# Altium integrated library Renesas ASSP.IntLib: 185 symbols (part 1 of 6)
Pins are listed as number, name and electrical type; pins without a type are passive.

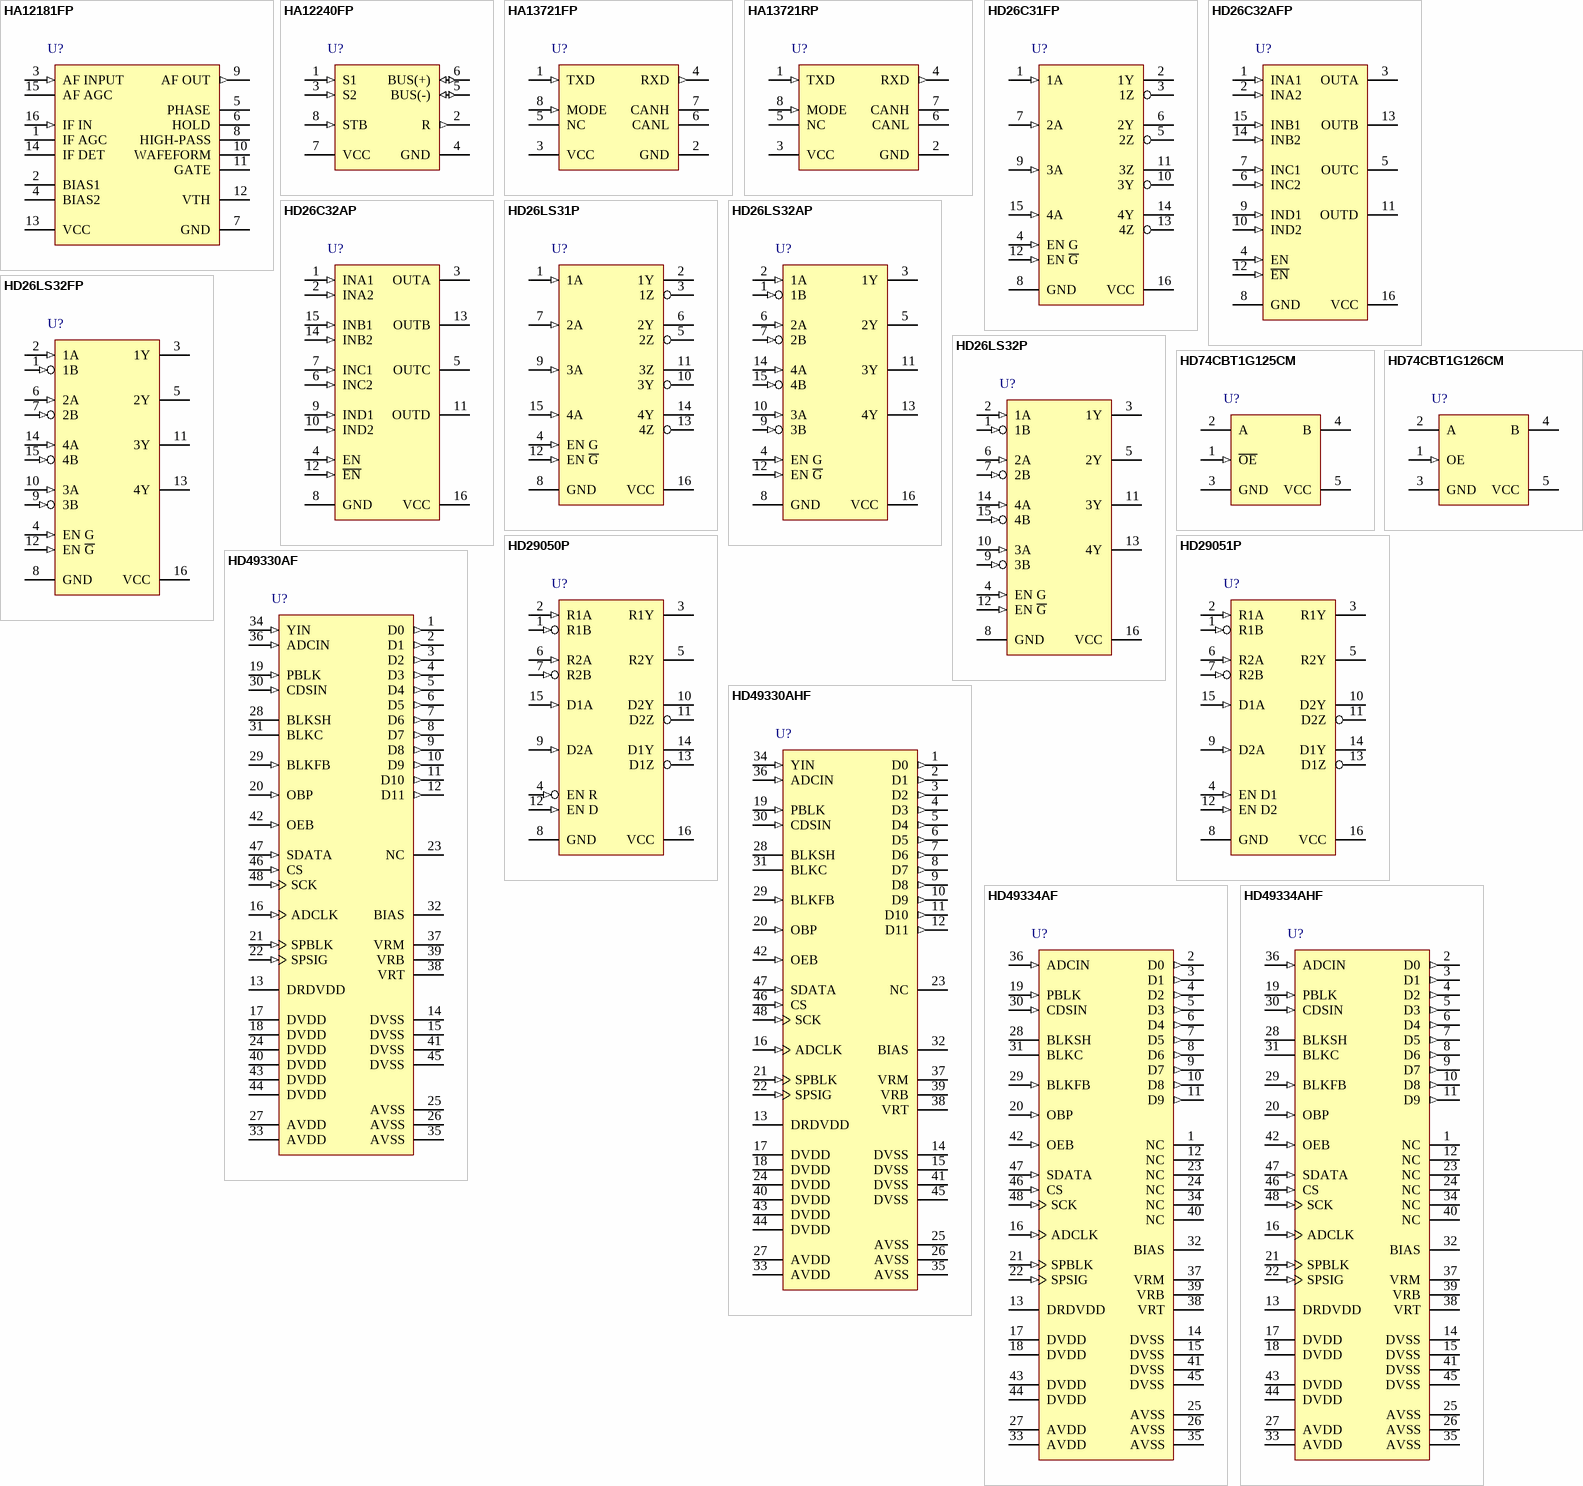
[diagram p0: symbols HA12181FP to HD49334AHF]

## HA12181FP
designator U?
AM noise canceller, 16-Pin SOP; Published: 5-Feb-2010; DatasheetVersion: Rev.2.00, Jun-2005; PackageVersion: Sep-2005; PackageReference: PRSP0016DH-A; Publisher: Altium Limited; PackageDescription: 16-Pin Plastic Small Outline Package 1.27 mm Pitch; Code_JEITA: P-SOP16-5.5x10.06-1.27; ComponentLink1Description: Manufacturer Link; ComponentLink1URL: http://sg.renesas.com/fmwk.jsp?cnt=assp_category_landing.jsp&fp=/products/assp; ComponentLink2Description: Datasheet; ComponentLink2URL: http://documentation.renesas.com/eng/products/assp/rej03f0130_ha12181fp.pdf; ComponentLink3Description: Packaging Specification; ComponentLink3URL: http://sg.renesas.com/media/products/common_info/package/pdf/ic/code/prsp0016dh_a.pdf
footprint PRSP0016DH-A_N (SOP, 16-Leads, Body 10.06x5.5mm, Pitch 1.27mm, IPC Medium Density)
footprint PRSP0016DH-A_L (SOP, 16-Leads, Body 10.06x5.5mm, Pitch 1.27mm, IPC High Density)
footprint PRSP0016DH-A_M (SOP, 16-Leads, Body 10.06x5.5mm, Pitch 1.27mm, IPC Low Density)
pins: 1 IF AGC, 2 BIAS1, 3 AF INPUT (in), 4 BIAS2, 5 PHASE, 6 HOLD, 7 GND (power), 8 HIGH-PASS, 9 AF OUT (out), 10 WAFEFORM, 11 GATE, 12 VTH, 13 VCC (power), 14 IF DET, 15 AF AGC, 16 IF IN (in)

## HA12240FP
designator U?
Driver/receiver for bus interface, 8-Pin SOP; Published: 5-Feb-2010; DatasheetVersion: Rev.1.0, Dec-2003; PackageVersion: Sep-2005; PackageReference: PRSP0008DE-B; Publisher: Altium Limited; PackageDescription: 8-Pin Plastic Small Outline Package 1.27 mm Pitch; Code_JEITA: P-SOP8-4.4x4.85-1.27; ComponentLink1Description: Manufacturer Link; ComponentLink1URL: http://sg.renesas.com/fmwk.jsp?cnt=assp_category_landing.jsp&fp=/products/assp; ComponentLink2Description: Datasheet; ComponentLink2URL: http://documentation.renesas.com/eng/products/assp/rej03f0095_ha12240fp.pdf; ComponentLink3Description: Packaging Specification; ComponentLink3URL: http://sg.renesas.com/media/products/common_info/package/pdf/ic/code/prsp0008de_b.pdf
footprint PRSP0008DE-B_N (SOP, 8-Leads, Body 4.85x4.4mm, Pitch 1.27mm, IPC Medium Density)
footprint PRSP0008DE-B_L (SOP, 8-Leads, Body 4.85x4.4mm, Pitch 1.27mm, IPC High Density)
footprint PRSP0008DE-B_M (SOP, 8-Leads, Body 4.85x4.4mm, Pitch 1.27mm, IPC Low Density)
pins: 1 S1 (in), 2 R (out), 3 S2 (in), 4 GND (power), 5 BUS(-) (io), 6 BUS(+) (io), 7 VCC (power), 8 STB (in)

## HA13721FP
designator U?
CAN Transceiver, 8-Pin SOP; Published: 5-Feb-2010; DatasheetVersion: Rev.1.00, Jul-2004; PackageVersion: Sep-2005; PackageReference: PRSP0008DE-A; Publisher: Altium Limited; PackageDescription: 8-Pin Plastic Small Outline Package 1.27 mm Pitch; Code_JEITA: P-SOP8-4.4x4.85-1.27; ComponentLink1Description: Manufacturer Link; ComponentLink1URL: http://sg.renesas.com/fmwk.jsp?cnt=assp_category_landing.jsp&fp=/products/assp; ComponentLink2Description: Datasheet; ComponentLink2URL: http://documentation.renesas.com/eng/products/assp/rej03f0116_ha13721rp_fp.pdf; ComponentLink3Description: Packaging Specification; ComponentLink3URL: http://sg.renesas.com/media/products/common_info/package/pdf/ic/code/prsp0008de_a.pdf
footprint PRSP0008DE-A_N (SOP, 8-Leads, Body 4.85x4.4mm, Pitch 1.27mm, IPC Medium Density)
footprint PRSP0008DE-A_L (SOP, 8-Leads, Body 4.85x4.4mm, Pitch 1.27mm, IPC High Density)
footprint PRSP0008DE-A_M (SOP, 8-Leads, Body 4.85x4.4mm, Pitch 1.27mm, IPC Low Density)
pins: 1 TXD (in), 2 GND (power), 3 VCC (power), 4 RXD (out), 5 NC, 6 CANL, 7 CANH, 8 MODE (in)

## HA13721RP
designator U?
CAN Transceiver, 8-Pin SOIC; Published: 5-Feb-2010; DatasheetVersion: Rev.1.00, Jul-2004; PackageVersion: Sep-2005; PackageReference: PRSP0008DD-B; Publisher: Altium Limited; PackageDescription: 8-Pin Plastic Small Outline Integrated Circuit 1.27 mm Pitch; Code_JEITA: P-SOP8-3.95x4.9-1.27; Code_IPC: SOIC127P600-8; ComponentLink1Description: Manufacturer Link; ComponentLink1URL: http://sg.renesas.com/fmwk.jsp?cnt=assp_category_landing.jsp&fp=/products/assp; ComponentLink2Description: Datasheet; ComponentLink2URL: http://documentation.renesas.com/eng/products/assp/rej03f0116_ha13721rp_fp.pdf; ComponentLink3Description: Packaging Specification; ComponentLink3URL: http://sg.renesas.com/media/products/common_info/package/pdf/ic/code/prsp0008dd_b.pdf
footprint PRSP0008DD-B_N (SOIC, 8-Leads, Body 4.9x3.95mm, Pitch 1.27mm, IPC Medium Density)
footprint PRSP0008DD-B_L (SOIC, 8-Leads, Body 4.9x3.95mm, Pitch 1.27mm, IPC High Density)
footprint PRSP0008DD-B_M (SOIC, 8-Leads, Body 4.9x3.95mm, Pitch 1.27mm, IPC Low Density)
pins: 1 TXD (in), 2 GND (power), 3 VCC (power), 4 RXD (out), 5 NC, 6 CANL, 7 CANH, 8 MODE (in)

## HD26C31FP
designator U?
Quad Differential Line Drivers with 3-State Outputs, 16-Pin SOP; Published: 5-Feb-2010; DatasheetVersion: Rev.2.00, Jul-2004; PackageVersion: Sep-2005; PackageReference: PRSP0016DH-B; Publisher: Altium Limited; PackageDescription: 16-Pin Plastic Small Outline Package 1.27 mm Pitch; Code_JEITA: P-SOP16-5.5x10.06-1.27; ComponentLink1Description: Manufacturer Link; ComponentLink1URL: http://sg.renesas.com/fmwk.jsp?cnt=assp_category_landing.jsp&fp=/products/assp; ComponentLink2Description: Datasheet; ComponentLink2URL: http://documentation.renesas.com/eng/products/logic/rej03d0292_hd26c31.pdf; ComponentLink3Description: Packaging Specification; ComponentLink3URL: http://sg.renesas.com/media/products/common_info/package/pdf/ic/code/prsp0016dh_b.pdf
footprint PRSP0016DH-B_N (SOP, 16-Leads, Body 10.06x5.5mm, Pitch 1.27mm, IPC Medium Density)
footprint PRSP0016DH-B_L (SOP, 16-Leads, Body 10.06x5.5mm, Pitch 1.27mm, IPC High Density)
footprint PRSP0016DH-B_M (SOP, 16-Leads, Body 10.06x5.5mm, Pitch 1.27mm, IPC Low Density)
pins: 1 1A (in), 2 1Y (hiz), 3 1Z (hiz), 4 EN G (in), 5 2Z (hiz), 6 2Y (hiz), 7 2A (in), 8 GND (power), 9 3A (in), 10 3Y (hiz), 11 3Z (hiz), 12 EN ~{G} (in), 13 4Z (hiz), 14 4Y (hiz), 15 4A (in), 16 VCC (power)

## HD26C32AFP
designator U?
Quad Differential Line Drivers with 3-State Outputs, 16-Pin SOP; Published: 5-Feb-2010; DatasheetVersion: Rev.2.00, Jul-2004; PackageVersion: Sep-2005; PackageReference: PRSP0016DH-B; Publisher: Altium Limited; PackageDescription: 16-Pin Plastic Small Outline Package 1.27 mm Pitch; Code_JEITA: P-SOP16-5.5x10.06-1.27; ComponentLink1Description: Manufacturer Link; ComponentLink1URL: http://sg.renesas.com/fmwk.jsp?cnt=assp_category_landing.jsp&fp=/products/assp; ComponentLink2Description: Datasheet; ComponentLink2URL: http://documentation.renesas.com/eng/products/logic/rej03d0293_hd26c32a.pdf; ComponentLink3Description: Packaging Specification; ComponentLink3URL: http://sg.renesas.com/media/products/common_info/package/pdf/ic/code/prsp0016dh_b.pdf
footprint PRSP0016DH-B_N (SOP, 16-Leads, Body 10.06x5.5mm, Pitch 1.27mm, IPC Medium Density)
footprint PRSP0016DH-B_L (SOP, 16-Leads, Body 10.06x5.5mm, Pitch 1.27mm, IPC High Density)
footprint PRSP0016DH-B_M (SOP, 16-Leads, Body 10.06x5.5mm, Pitch 1.27mm, IPC Low Density)
pins: 1 INA1 (in), 2 INA2 (in), 3 OUTA (hiz), 4 EN (in), 5 OUTC (hiz), 6 INC2 (in), 7 INC1 (in), 8 GND (power), 9 IND1 (in), 10 IND2 (in), 11 OUTD (hiz), 12 ~{EN} (in), 13 OUTB (hiz), 14 INB2 (in), 15 INB1 (in), 16 VCC (power)

## HD26C32AP
designator U?
Quad Differential Line Drivers with 3-State Outputs, 16-Pin DIP; Published: 5-Feb-2010; DatasheetVersion: Rev.2.00, Jul-2004; PackageVersion: Sep-2005; PackageReference: PRDP0016AE-B; Publisher: Altium Limited; PackageDescription: DIP, Plastic, 16-Pin, Row Spacing 7.62 mm, Pitch 2.54 mm; Code_JEITA: P-DIP16-6.3x19.2-2.54; ComponentLink1Description: Manufacturer Link; ComponentLink1URL: http://sg.renesas.com/fmwk.jsp?cnt=assp_category_landing.jsp&fp=/products/assp; ComponentLink2Description: Datasheet; ComponentLink2URL: http://documentation.renesas.com/eng/products/logic/rej03d0293_hd26c32a.pdf; ComponentLink3Description: Packaging Specification; ComponentLink3URL: http://sg.renesas.com/media/products/common_info/package/pdf/ic/code/prdp0016ae_b.pdf
footprint PRDP0016AE-B (DIP, 16-Leads, Row Spacing 7.62mm, Pitch 2.54mm, Body 19.2x6.3mm)
pins: 1 INA1 (in), 2 INA2 (in), 3 OUTA (hiz), 4 EN (in), 5 OUTC (hiz), 6 INC2 (in), 7 INC1 (in), 8 GND (power), 9 IND1 (in), 10 IND2 (in), 11 OUTD (hiz), 12 ~{EN} (in), 13 OUTB (hiz), 14 INB2 (in), 15 INB1 (in), 16 VCC (power)

## HD26LS31P
designator U?
Quad Differential Line Drivers with 3-State Outputs (EIA RS-422A), 16-Pin DIP; Published: 5-Feb-2010; DatasheetVersion: Rev.2.00, Jul-2004; PackageVersion: Sep-2005; PackageReference: PRDP0016AE-B; Publisher: Altium Limited; PackageDescription: DIP, Plastic, 16-Pin, Row Spacing 7.62 mm, Pitch 2.54 mm; Code_JEITA: P-DIP16-6.3x19.2-2.54; ComponentLink1Description: Manufacturer Link; ComponentLink1URL: http://sg.renesas.com/fmwk.jsp?cnt=assp_category_landing.jsp&fp=/products/assp; ComponentLink2Description: Datasheet; ComponentLink2URL: http://documentation.renesas.com/eng/products/logic/rej03d0294_hd26ls31.pdf; ComponentLink3Description: Packaging Specification; ComponentLink3URL: http://sg.renesas.com/media/products/common_info/package/pdf/ic/code/prdp0016ae_b.pdf
footprint PRDP0016AE-B (DIP, 16-Leads, Row Spacing 7.62mm, Pitch 2.54mm, Body 19.2x6.3mm)
pins: 1 1A (in), 2 1Y (hiz), 3 1Z (hiz), 4 EN G (in), 5 2Z (hiz), 6 2Y (hiz), 7 2A (in), 8 GND (power), 9 3A (in), 10 3Y (hiz), 11 3Z (hiz), 12 EN ~{G} (in), 13 4Z (hiz), 14 4Y (hiz), 15 4A (in), 16 VCC (power)

## HD26LS32AP
designator U?
Quad Differential Line Receivers with 3-State Outputs (EIA RS-422A, 423A), 16-Pin DIP; Published: 5-Feb-2010; DatasheetVersion: Rev.2.00, Jul-2004; PackageVersion: Sep-2005; PackageReference: PRDP0016AE-B; Publisher: Altium Limited; PackageDescription: DIP, Plastic, 16-Pin, Row Spacing 7.62 mm, Pitch 2.54 mm; Code_JEITA: P-DIP16-6.3x19.2-2.54; ComponentLink1Description: Manufacturer Link; ComponentLink1URL: http://sg.renesas.com/fmwk.jsp?cnt=assp_category_landing.jsp&fp=/products/assp; ComponentLink2Description: Datasheet; ComponentLink2URL: http://documentation.renesas.com/eng/products/logic/rej03d0294_hd26ls31.pdf; ComponentLink3Description: Packaging Specification; ComponentLink3URL: http://sg.renesas.com/media/products/common_info/package/pdf/ic/code/prdp0016ae_b.pdf
footprint PRDP0016AE-B (DIP, 16-Leads, Row Spacing 7.62mm, Pitch 2.54mm, Body 19.2x6.3mm)
pins: 1 1B (in), 2 1A (in), 3 1Y (hiz), 4 EN G (in), 5 2Y (hiz), 6 2A (in), 7 2B (in), 8 GND (power), 9 3B (in), 10 3A (in), 11 3Y (hiz), 12 EN ~{G} (in), 13 4Y (hiz), 14 4A (in), 15 4B (in), 16 VCC (power)

## HD26LS32FP
designator U?
Quad Differential Line Receivers with 3-State Outputs (EIA RS-422A, 423A), 16-Pin SOP; Published: 5-Feb-2010; DatasheetVersion: Rev.2.00, Jul-2004; PackageVersion: Sep-2005; PackageReference: PRSP0016DH-B; Publisher: Altium Limited; PackageDescription: 16-Pin Plastic Small Outline Package 1.27 mm Pitch; Code_JEITA: P-SOP16-5.5x10.06-1.27; ComponentLink1Description: Manufacturer Link; ComponentLink1URL: http://sg.renesas.com/fmwk.jsp?cnt=assp_category_landing.jsp&fp=/products/assp; ComponentLink2Description: Datasheet; ComponentLink2URL: http://documentation.renesas.com/eng/products/logic/rej03d0294_hd26ls31.pdf; ComponentLink3Description: Packaging Specification; ComponentLink3URL: http://sg.renesas.com/media/products/common_info/package/pdf/ic/code/prsp0016dh_b.pdf
footprint PRSP0016DH-B_N (SOP, 16-Leads, Body 10.06x5.5mm, Pitch 1.27mm, IPC Medium Density)
footprint PRSP0016DH-B_L (SOP, 16-Leads, Body 10.06x5.5mm, Pitch 1.27mm, IPC High Density)
footprint PRSP0016DH-B_M (SOP, 16-Leads, Body 10.06x5.5mm, Pitch 1.27mm, IPC Low Density)
pins: 1 1B (in), 2 1A (in), 3 1Y (hiz), 4 EN G (in), 5 2Y (hiz), 6 2A (in), 7 2B (in), 8 GND (power), 9 3B (in), 10 3A (in), 11 3Y (hiz), 12 EN ~{G} (in), 13 4Y (hiz), 14 4A (in), 15 4B (in), 16 VCC (power)

## HD26LS32P
designator U?
Quad Differential Line Receivers with 3-State Outputs (EIA RS-422A, 423A), 16-Pin DIP; Published: 5-Feb-2010; DatasheetVersion: Rev.2.00, Jul-2004; PackageVersion: Sep-2005; PackageReference: PRDP0016AE-B; Publisher: Altium Limited; PackageDescription: DIP, Plastic, 16-Pin, Row Spacing 7.62 mm, Pitch 2.54 mm; Code_JEITA: P-DIP16-6.3x19.2-2.54; ComponentLink1Description: Manufacturer Link; ComponentLink1URL: http://sg.renesas.com/fmwk.jsp?cnt=assp_category_landing.jsp&fp=/products/assp; ComponentLink2Description: Datasheet; ComponentLink2URL: http://documentation.renesas.com/eng/products/logic/rej03d0294_hd26ls31.pdf; ComponentLink3Description: Packaging Specification; ComponentLink3URL: http://sg.renesas.com/media/products/common_info/package/pdf/ic/code/prdp0016ae_b.pdf
footprint PRDP0016AE-B (DIP, 16-Leads, Row Spacing 7.62mm, Pitch 2.54mm, Body 19.2x6.3mm)
pins: 1 1B (in), 2 1A (in), 3 1Y (hiz), 4 EN G (in), 5 2Y (hiz), 6 2A (in), 7 2B (in), 8 GND (power), 9 3B (in), 10 3A (in), 11 3Y (hiz), 12 EN ~{G} (in), 13 4Y (hiz), 14 4A (in), 15 4B (in), 16 VCC (power)

## HD74CBT1G125CM
designator U?
Single FET Bus Switch, 5-Pin SOT 23; Published: 5-Feb-2010; DatasheetVersion: Rev.1.00, Apr-2006; PackageVersion: Jan-2005; PackageReference: PTSP0005ZC-A; Publisher: Altium Limited; PackageDescription: 5-Pin Plastic SOT-353 Package 0.65 mm Pitch, 2.1 mm Lead Span; Code_JEITA: SC-88A; Code_IPC: SOT353-5; ComponentLink1Description: Manufacturer Link; ComponentLink1URL: http://sg.renesas.com/fmwk.jsp?cnt=assp_category_landing.jsp&fp=/products/assp; ComponentLink2Description: Datasheet; ComponentLink2URL: http://documentation.renesas.com/eng/products/logic/rej03d0815_hd74cbt1g125ds.pdf; ComponentLink3Description: Packaging Specification; ComponentLink3URL: http://sg.renesas.com/media/products/common_info/package/pdf/ic/code/ptsp0005zc_a.pdf
footprint PTSP0005ZC-A_N (SOT353, 5-Leads, Body 2x1.3mm, Pitch 0.65mm, Lead Span 2.1mm, IPC Medium Density)
footprint PTSP0005ZC-A_L (SOT353, 5-Leads, Body 2x1.3mm, Pitch 0.65mm, Lead Span 2.1mm, IPC High Density)
footprint PTSP0005ZC-A_M (SOT353, 5-Leads, Body 2x1.3mm, Pitch 0.65mm, Lead Span 2.1mm, IPC Low Density)
pins: 1 ~{OE} (in), 2 A, 3 GND (power), 4 B, 5 VCC (power)

## HD74CBT1G126CM
designator U?
Single FET Bus Switch, 5-Pin SOT 23; Published: 5-Feb-2010; DatasheetVersion: Rev.1.00, Apr-2006; PackageVersion: Jan-2005; PackageReference: PTSP0005ZC-A; Publisher: Altium Limited; PackageDescription: 5-Pin Plastic SOT-353 Package 0.65 mm Pitch, 2.1 mm Lead Span; Code_JEITA: SC-88A; Code_IPC: SOT353-5; ComponentLink1Description: Manufacturer Link; ComponentLink1URL: http://sg.renesas.com/fmwk.jsp?cnt=assp_category_landing.jsp&fp=/products/assp; ComponentLink2Description: Datasheet; ComponentLink2URL: http://documentation.renesas.com/eng/products/logic/rej03d0816_hd74cbt1g126ds.pdf; ComponentLink3Description: Packaging Specification; ComponentLink3URL: http://sg.renesas.com/media/products/common_info/package/pdf/ic/code/ptsp0005zc_a.pdf
footprint PTSP0005ZC-A_N (SOT353, 5-Leads, Body 2x1.3mm, Pitch 0.65mm, Lead Span 2.1mm, IPC Medium Density)
footprint PTSP0005ZC-A_L (SOT353, 5-Leads, Body 2x1.3mm, Pitch 0.65mm, Lead Span 2.1mm, IPC High Density)
footprint PTSP0005ZC-A_M (SOT353, 5-Leads, Body 2x1.3mm, Pitch 0.65mm, Lead Span 2.1mm, IPC Low Density)
pins: 1 OE (in), 2 A, 3 GND (power), 4 B, 5 VCC (power)

## HD29050P
designator U?
Dual Differential Line Drivers/Receivers with 3-State Outputs (EIA RS-422A), 16-Pin DIP; Published: 5-Feb-2010; DatasheetVersion: Rev.3.00, Jul-2004; PackageVersion: Sep-2005; PackageReference: PRDP0016AE-B; Publisher: Altium Limited; PackageDescription: DIP, Plastic, 16-Pin, Row Spacing 7.62 mm, Pitch 2.54 mm; Code_JEITA: P-DIP16-6.3x19.2-2.54; ComponentLink1Description: Manufacturer Link; ComponentLink1URL: http://sg.renesas.com/fmwk.jsp?cnt=assp_category_landing.jsp&fp=/products/assp; ComponentLink2Description: Datasheet; ComponentLink2URL: http://documentation.renesas.com/eng/products/logic/rej03d0304_hd29050.pdf; ComponentLink3Description: Packaging Specification; ComponentLink3URL: http://sg.renesas.com/media/products/common_info/package/pdf/ic/code/prdp0016ae_b.pdf
footprint PRDP0016AE-B (DIP, 16-Leads, Row Spacing 7.62mm, Pitch 2.54mm, Body 19.2x6.3mm)
pins: 1 R1B (in), 2 R1A (in), 3 R1Y (hiz), 4 EN R (in), 5 R2Y (hiz), 6 R2A (in), 7 R2B (in), 8 GND (power), 9 D2A (in), 10 D2Y (hiz), 11 D2Z (hiz), 12 EN D (in), 13 D1Z (hiz), 14 D1Y (hiz), 15 D1A (in), 16 VCC (power)

## HD29051P
designator U?
Dual Differential Line Drivers/Receivers with 3-State Outputs (EIA RS-422A), 16-Pin DIP; Published: 5-Feb-2010; DatasheetVersion: Rev.3.00, Jul-2004; PackageVersion: Sep-2005; PackageReference: PRDP0016AE-B; Publisher: Altium Limited; PackageDescription: DIP, Plastic, 16-Pin, Row Spacing 7.62 mm, Pitch 2.54 mm; Code_JEITA: P-DIP16-6.3x19.2-2.54; ComponentLink1Description: Manufacturer Link; ComponentLink1URL: http://sg.renesas.com/fmwk.jsp?cnt=assp_category_landing.jsp&fp=/products/assp; ComponentLink2Description: Datasheet; ComponentLink2URL: http://documentation.renesas.com/eng/products/logic/rej03d0305_hd29051.pdf; ComponentLink3Description: Packaging Specification; ComponentLink3URL: http://sg.renesas.com/media/products/common_info/package/pdf/ic/code/prdp0016ae_b.pdf
footprint PRDP0016AE-B (DIP, 16-Leads, Row Spacing 7.62mm, Pitch 2.54mm, Body 19.2x6.3mm)
pins: 1 R1B (in), 2 R1A (in), 3 R1Y (hiz), 4 EN D1 (in), 5 R2Y (hiz), 6 R2A (in), 7 R2B (in), 8 GND (power), 9 D2A (in), 10 D2Y (hiz), 11 D2Z (hiz), 12 EN D2 (in), 13 D1Z (hiz), 14 D1Y (hiz), 15 D1A (in), 16 VCC (power)

## HD49330AF
designator U?
CDS/PGA & 12-Bit A/D Converter, 80mW, 20 MHz max, 48-Pin QFP; Published: 5-Feb-2010; DatasheetVersion: Rev.1.0, Sep-2004; PackageVersion: Sep-2005; PackageReference: PLQP0048KD-A; Publisher: Altium Limited; PackageDescription: 48-Pin Plastic Low Profile QFP, 7 x 7 x 1.4 mm Body, 0.5 mm Pitch; Code_JEITA: P-LQFP48-7x7-0.50; Code_IPC: SQFP50P900X900-48; ComponentLink1Description: Manufacturer Link; ComponentLink1URL: http://sg.renesas.com/fmwk.jsp?cnt=assp_category_landing.jsp&fp=/products/assp; ComponentLink2Description: Datasheet; ComponentLink2URL: http://documentation.renesas.com/eng/products/assp/rej03f0102_hd49330af_ahf.pdf; ComponentLink3Description: Packaging Specification; ComponentLink3URL: http://sg.renesas.com/media/products/common_info/package/pdf/ic/code/plqp0048kd_a.pdf
footprint PLQP0048KD-A_N (Shrink QFP, 48-Leads, Body 7x7mm, Pitch 0.5mm, IPC Medium Density)
footprint PLQP0048KD-A_L (Shrink QFP, 48-Leads, Body 7x7mm, Pitch 0.5mm, IPC High Density)
footprint PLQP0048KD-A_M (Shrink QFP, 48-Leads, Body 7x7mm, Pitch 0.5mm, IPC Low Density)
pins: 1 D0 (out), 2 D1 (out), 3 D2 (out), 4 D3 (out), 5 D4 (out), 6 D5 (out), 7 D6 (out), 8 D7 (out), 9 D8 (out), 10 D9 (out), 11 D10 (out), 12 D11 (out), 13 DRDVDD (power), 14 DVSS (power), 15 DVSS (power), 16 ADCLK (in), 17 DVDD (power), 18 DVDD (power), 19 PBLK (in), 20 OBP (in), 21 SPBLK (in), 22 SPSIG (in), 23 NC, 24 DVDD (power), 25 AVSS (power), 26 AVSS (power), 27 AVDD (power), 28 BLKSH, 29 BLKFB (in), 30 CDSIN (in), 31 BLKC, 32 BIAS, 33 AVDD (power), 34 YIN (in), 35 AVSS (power), 36 ADCIN (in), 37 VRM, 38 VRT, 39 VRB, 40 DVDD (power), 41 DVSS (power), 42 OEB (in), 43 DVDD (power), 44 DVDD (power), 45 DVSS (power), 46 CS (in), 47 SDATA (in), 48 SCK (in)

## HD49330AHF
designator U?
CDS/PGA & 12-Bit A/D Converter, 150mW, 36 MHz max, 48-Pin QFP; Published: 5-Feb-2010; DatasheetVersion: Rev.1.0, Sep-2004; PackageVersion: Sep-2005; PackageReference: PLQP0048KD-A; Publisher: Altium Limited; PackageDescription: 48-Pin Plastic Low Profile QFP, 7 x 7 x 1.4 mm Body, 0.5 mm Pitch; Code_JEITA: P-LQFP48-7x7-0.50; Code_IPC: SQFP50P900X900-48; ComponentLink1Description: Manufacturer Link; ComponentLink1URL: http://sg.renesas.com/fmwk.jsp?cnt=assp_category_landing.jsp&fp=/products/assp; ComponentLink2Description: Datasheet; ComponentLink2URL: http://documentation.renesas.com/eng/products/assp/rej03f0102_hd49330af_ahf.pdf; ComponentLink3Description: Packaging Specification; ComponentLink3URL: http://sg.renesas.com/media/products/common_info/package/pdf/ic/code/plqp0048kd_a.pdf
footprint PLQP0048KD-A_N (Shrink QFP, 48-Leads, Body 7x7mm, Pitch 0.5mm, IPC Medium Density)
footprint PLQP0048KD-A_L (Shrink QFP, 48-Leads, Body 7x7mm, Pitch 0.5mm, IPC High Density)
footprint PLQP0048KD-A_M (Shrink QFP, 48-Leads, Body 7x7mm, Pitch 0.5mm, IPC Low Density)
pins: 1 D0 (out), 2 D1 (out), 3 D2 (out), 4 D3 (out), 5 D4 (out), 6 D5 (out), 7 D6 (out), 8 D7 (out), 9 D8 (out), 10 D9 (out), 11 D10 (out), 12 D11 (out), 13 DRDVDD (power), 14 DVSS (power), 15 DVSS (power), 16 ADCLK (in), 17 DVDD (power), 18 DVDD (power), 19 PBLK (in), 20 OBP (in), 21 SPBLK (in), 22 SPSIG (in), 23 NC, 24 DVDD (power), 25 AVSS (power), 26 AVSS (power), 27 AVDD (power), 28 BLKSH, 29 BLKFB (in), 30 CDSIN (in), 31 BLKC, 32 BIAS, 33 AVDD (power), 34 YIN (in), 35 AVSS (power), 36 ADCIN (in), 37 VRM, 38 VRT, 39 VRB, 40 DVDD (power), 41 DVSS (power), 42 OEB (in), 43 DVDD (power), 44 DVDD (power), 45 DVSS (power), 46 CS (in), 47 SDATA (in), 48 SCK (in)

## HD49334AF
designator U?
CDS/PGA & 10-Bit A/D Converter, 60mW, 25MHz max, 48-Pin QFP; Published: 5-Feb-2010; DatasheetVersion: Rev.2.00, May-2005; PackageVersion: Sep-2005; PackageReference: PLQP0048KD-A; Publisher: Altium Limited; PackageDescription: 48-Pin Plastic Low Profile QFP, 7 x 7 x 1.4 mm Body, 0.5 mm Pitch; Code_JEITA: P-LQFP48-7x7-0.50; Code_IPC: SQFP50P900X900-48; ComponentLink1Description: Manufacturer Link; ComponentLink1URL: http://sg.renesas.com/fmwk.jsp?cnt=assp_category_landing.jsp&fp=/products/assp; ComponentLink2Description: Datasheet; ComponentLink2URL: http://documentation.renesas.com/eng/products/assp/rej03f0105_hd49334af_ahf.pdf; ComponentLink3Description: Packaging Specification; ComponentLink3URL: http://sg.renesas.com/media/products/common_info/package/pdf/ic/code/plqp0048kd_a.pdf
footprint PLQP0048KD-A_N (Shrink QFP, 48-Leads, Body 7x7mm, Pitch 0.5mm, IPC Medium Density)
footprint PLQP0048KD-A_L (Shrink QFP, 48-Leads, Body 7x7mm, Pitch 0.5mm, IPC High Density)
footprint PLQP0048KD-A_M (Shrink QFP, 48-Leads, Body 7x7mm, Pitch 0.5mm, IPC Low Density)
pins: 1 NC, 2 D0 (out), 3 D1 (out), 4 D2 (out), 5 D3 (out), 6 D4 (out), 7 D5 (out), 8 D6 (out), 9 D7 (out), 10 D8 (out), 11 D9 (out), 12 NC, 13 DRDVDD (power), 14 DVSS (power), 15 DVSS (power), 16 ADCLK (in), 17 DVDD (power), 18 DVDD (power), 19 PBLK (in), 20 OBP (in), 21 SPBLK (in), 22 SPSIG (in), 23 NC, 24 NC, 25 AVSS (power), 26 AVSS (power), 27 AVDD (power), 28 BLKSH, 29 BLKFB (in), 30 CDSIN (in), 31 BLKC, 32 BIAS, 33 AVDD (power), 34 NC, 35 AVSS (power), 36 ADCIN (in), 37 VRM, 38 VRT, 39 VRB, 40 NC, 41 DVSS (power), 42 OEB (in), 43 DVDD (power), 44 DVDD (power), 45 DVSS (power), 46 CS (in), 47 SDATA (in), 48 SCK (in)

## HD49334AHF
designator U?
CDS/PGA & 10-Bit A/D Converter, 120mW, 36MHz max, 48-Pin QFP; Published: 5-Feb-2010; DatasheetVersion: Rev.2.00, May-2005; PackageVersion: Sep-2005; PackageReference: PLQP0048KD-A; Publisher: Altium Limited; PackageDescription: 48-Pin Plastic Low Profile QFP, 7 x 7 x 1.4 mm Body, 0.5 mm Pitch; Code_JEITA: P-LQFP48-7x7-0.50; Code_IPC: SQFP50P900X900-48; ComponentLink1Description: Manufacturer Link; ComponentLink1URL: http://sg.renesas.com/fmwk.jsp?cnt=assp_category_landing.jsp&fp=/products/assp; ComponentLink2Description: Datasheet; ComponentLink2URL: http://documentation.renesas.com/eng/products/assp/rej03f0105_hd49334af_ahf.pdf; ComponentLink3Description: Packaging Specification; ComponentLink3URL: http://sg.renesas.com/media/products/common_info/package/pdf/ic/code/plqp0048kd_a.pdf
footprint PLQP0048KD-A_N (Shrink QFP, 48-Leads, Body 7x7mm, Pitch 0.5mm, IPC Medium Density)
footprint PLQP0048KD-A_L (Shrink QFP, 48-Leads, Body 7x7mm, Pitch 0.5mm, IPC High Density)
footprint PLQP0048KD-A_M (Shrink QFP, 48-Leads, Body 7x7mm, Pitch 0.5mm, IPC Low Density)
pins: 1 NC, 2 D0 (out), 3 D1 (out), 4 D2 (out), 5 D3 (out), 6 D4 (out), 7 D5 (out), 8 D6 (out), 9 D7 (out), 10 D8 (out), 11 D9 (out), 12 NC, 13 DRDVDD (power), 14 DVSS (power), 15 DVSS (power), 16 ADCLK (in), 17 DVDD (power), 18 DVDD (power), 19 PBLK (in), 20 OBP (in), 21 SPBLK (in), 22 SPSIG (in), 23 NC, 24 NC, 25 AVSS (power), 26 AVSS (power), 27 AVDD (power), 28 BLKSH, 29 BLKFB (in), 30 CDSIN (in), 31 BLKC, 32 BIAS, 33 AVDD (power), 34 NC, 35 AVSS (power), 36 ADCIN (in), 37 VRM, 38 VRT, 39 VRB, 40 NC, 41 DVSS (power), 42 OEB (in), 43 DVDD (power), 44 DVDD (power), 45 DVSS (power), 46 CS (in), 47 SDATA (in), 48 SCK (in)

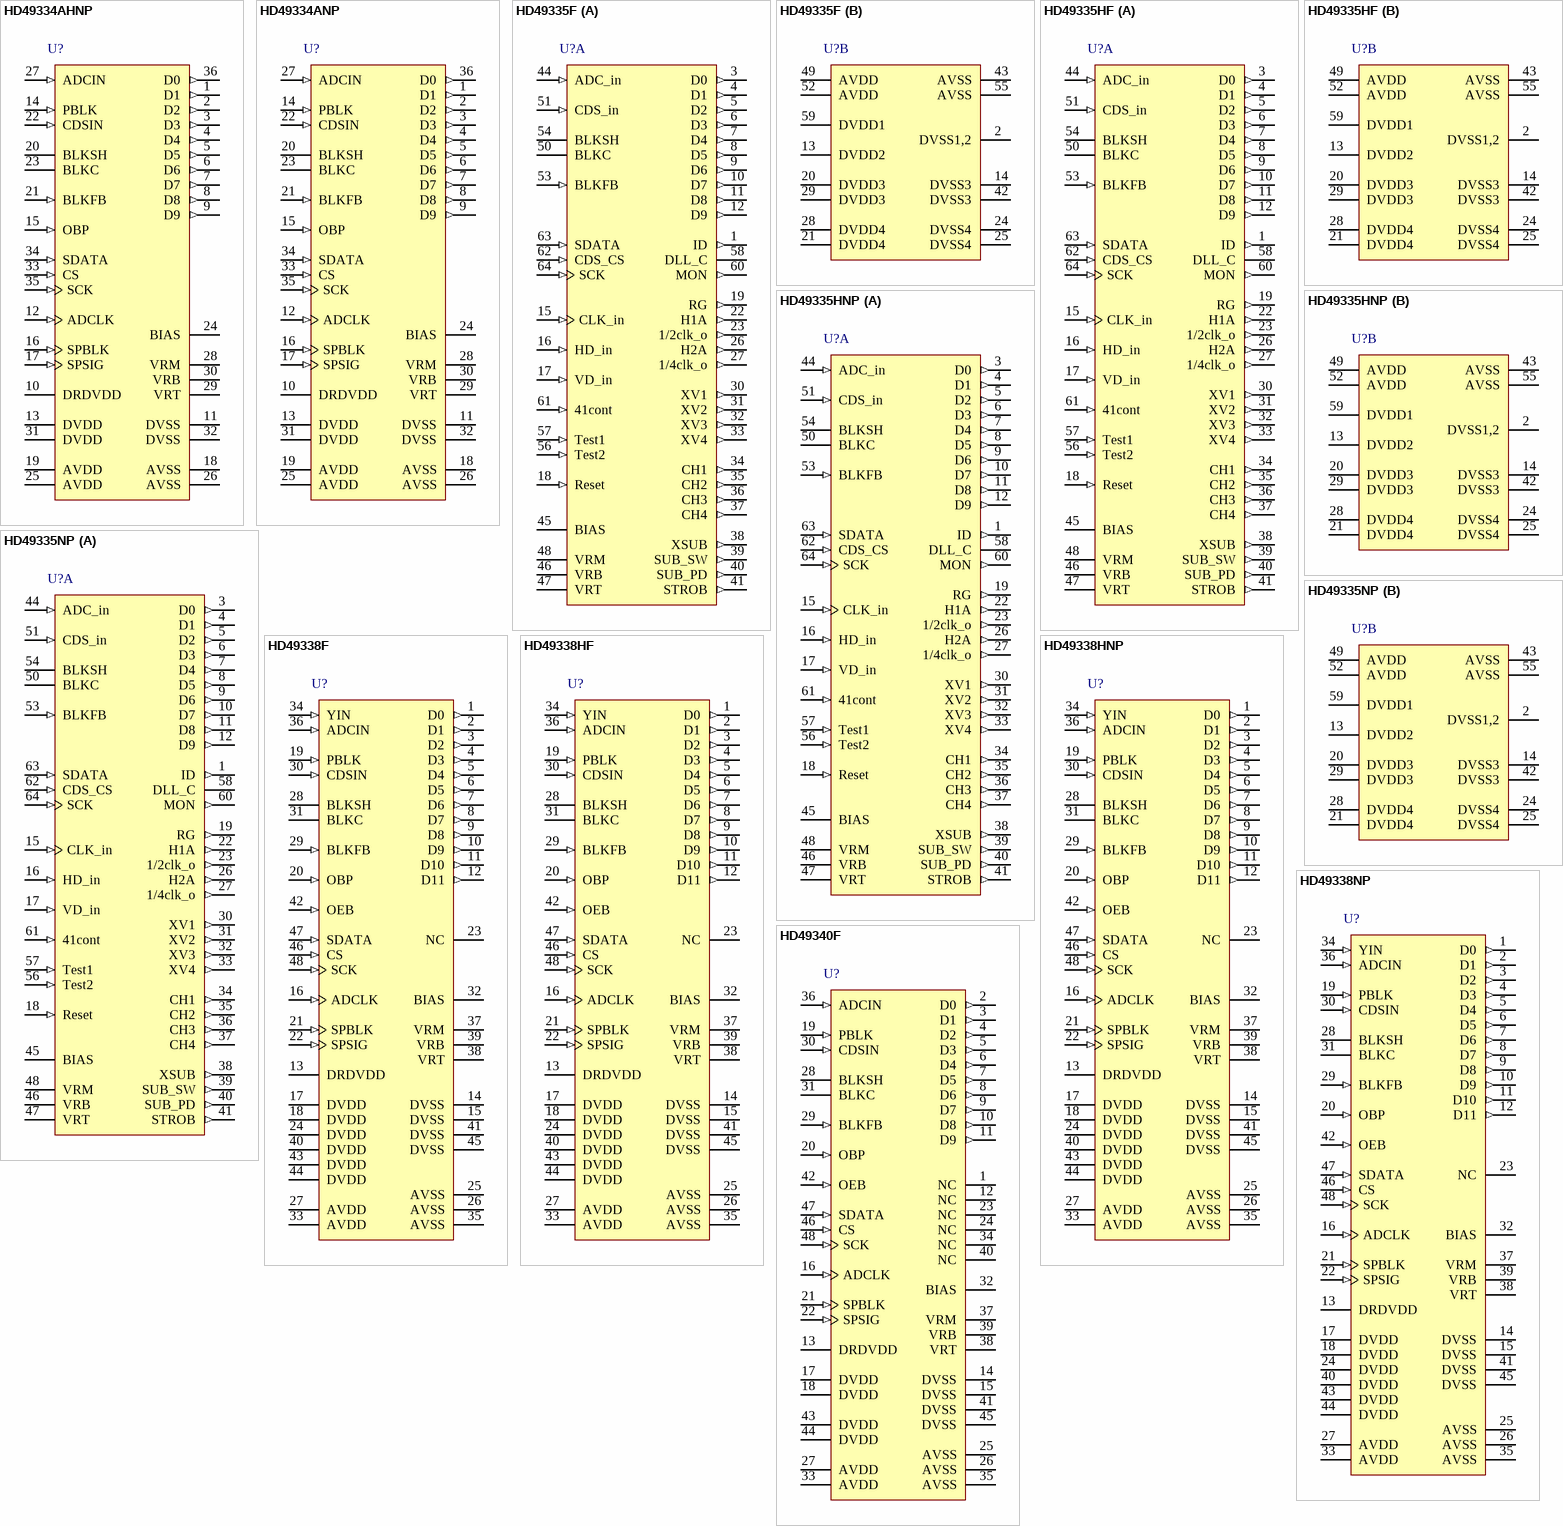
[diagram p1: symbols HD49334AHNP to HD49340F]

## HD49334AHNP
designator U?
CDS/PGA & 10-Bit A/D Converter, 120mW, 36MHz max, 36-Pin QFN; Published: 5-Feb-2010; DatasheetVersion: Rev.2.00, May-2005; PackageVersion: Sep-2005; PackageReference: PVQN0036KA-A; Publisher: Altium Limited; PackageDescription: 36-Pin Plastic Very Thin QFN, 6.2 x 6.2 x 0.89 mm Body, 0.5 mm Pitch; Code_JEITA: P-VQFN36-6x6-0.50; ComponentLink1Description: Manufacturer Link; ComponentLink1URL: http://sg.renesas.com/fmwk.jsp?cnt=assp_category_landing.jsp&fp=/products/assp; ComponentLink2Description: Datasheet; ComponentLink2URL: http://documentation.renesas.com/eng/products/assp/rej03f0106_hd49334anp_ahnp.pdf; ComponentLink3Description: Packaging Specification; ComponentLink3URL: http://sg.renesas.com/media/products/common_info/package/pdf/ic/code/pvqn0036ka_a.pdf
footprint PVQN0036KA-A_N (QFN, 36-Leads, Body 6.2x6.2mm, Pitch 0.5mm, IPC Medium Density)
footprint PVQN0036KA-A_L (QFN, 36-Leads, Body 6.2x6.2mm, Pitch 0.5mm, IPC High Density)
footprint PVQN0036KA-A_M (QFN, 36-Leads, Body 6.2x6.2mm, Pitch 0.5mm, IPC Low Density)
pins: 1 D1 (out), 2 D2 (out), 3 D3 (out), 4 D4 (out), 5 D5 (out), 6 D6 (out), 7 D7 (out), 8 D8 (out), 9 D9 (out), 10 DRDVDD (power), 11 DVSS (power), 12 ADCLK (in), 13 DVDD (power), 14 PBLK (in), 15 OBP (in), 16 SPBLK (in), 17 SPSIG (in), 18 AVSS (power), 19 AVDD (power), 20 BLKSH, 21 BLKFB (in), 22 CDSIN (in), 23 BLKC, 24 BIAS, 25 AVDD (power), 26 AVSS (power), 27 ADCIN (in), 28 VRM, 29 VRT, 30 VRB, 31 DVDD (power), 32 DVSS (power), 33 CS (in), 34 SDATA (in), 35 SCK (in), 36 D0 (out)

## HD49334ANP
designator U?
CDS/PGA & 10-Bit A/D Converter, 60mW, 25MHz max, 36-Pin QFN; Published: 5-Feb-2010; DatasheetVersion: Rev.2.00, May-2005; PackageVersion: Sep-2005; PackageReference: PVQN0036KA-A; Publisher: Altium Limited; PackageDescription: 36-Pin Plastic Very Thin QFN, 6.2 x 6.2 x 0.89 mm Body, 0.5 mm Pitch; Code_JEITA: P-VQFN36-6x6-0.50; ComponentLink1Description: Manufacturer Link; ComponentLink1URL: http://sg.renesas.com/fmwk.jsp?cnt=assp_category_landing.jsp&fp=/products/assp; ComponentLink2Description: Datasheet; ComponentLink2URL: http://documentation.renesas.com/eng/products/assp/rej03f0106_hd49334anp_ahnp.pdf; ComponentLink3Description: Packaging Specification; ComponentLink3URL: http://sg.renesas.com/media/products/common_info/package/pdf/ic/code/pvqn0036ka_a.pdf
footprint PVQN0036KA-A_N (QFN, 36-Leads, Body 6.2x6.2mm, Pitch 0.5mm, IPC Medium Density)
footprint PVQN0036KA-A_L (QFN, 36-Leads, Body 6.2x6.2mm, Pitch 0.5mm, IPC High Density)
footprint PVQN0036KA-A_M (QFN, 36-Leads, Body 6.2x6.2mm, Pitch 0.5mm, IPC Low Density)
pins: 1 D1 (out), 2 D2 (out), 3 D3 (out), 4 D4 (out), 5 D5 (out), 6 D6 (out), 7 D7 (out), 8 D8 (out), 9 D9 (out), 10 DRDVDD (power), 11 DVSS (power), 12 ADCLK (in), 13 DVDD (power), 14 PBLK (in), 15 OBP (in), 16 SPBLK (in), 17 SPSIG (in), 18 AVSS (power), 19 AVDD (power), 20 BLKSH, 21 BLKFB (in), 22 CDSIN (in), 23 BLKC, 24 BIAS, 25 AVDD (power), 26 AVSS (power), 27 ADCIN (in), 28 VRM, 29 VRT, 30 VRB, 31 DVDD (power), 32 DVSS (power), 33 CS (in), 34 SDATA (in), 35 SCK (in), 36 D0 (out)

## HD49335F
designator U?
CDS/PGA & 10-Bit A/D Converter + TG Converter, 150mW, 25MHz max, 64-Pin QFP; Published: 5-Feb-2010; DatasheetVersion: Rev.1.0, Feb-2004; PackageVersion: Feb-2004; PackageReference: TFP-64C; Publisher: Altium Limited; PackageDescription: 64-Pin Plastic Thin Quad Flat Pack, 10 x 10 x 1.0 mm Body, 0.5 mm Pitch; ComponentLink1Description: Manufacturer Link; ComponentLink1URL: http://sg.renesas.com/fmwk.jsp?cnt=assp_category_landing.jsp&fp=/products/assp; ComponentLink2Description: Datasheet; ComponentLink2URL: http://documentation.renesas.com/eng/products/assp/rej03f0100_hd49335f_hf.pdf
footprint TFP-64C_N (Thin QFP, 64-Leads, Body 10x10mm, Pitch 0.5mm, IPC Medium Density)
footprint TFP-64C_L (Thin QFP, 64-Leads, Body 10x10mm, Pitch 0.5mm, IPC High Density)
footprint TFP-64C_M (Thin QFP, 64-Leads, Body 10x10mm, Pitch 0.5mm, IPC Low Density)
part A pins: 1 ID (out), 3 D0 (out), 4 D1 (out), 5 D2 (out), 6 D3 (out), 7 D4 (out), 8 D5 (out), 9 D6 (out), 10 D7 (out), 11 D8 (out), 12 D9 (out), 15 CLK_in (in), 16 HD_in (in), 17 VD_in (in), 18 Reset (in), 19 RG (out), 22 H1A (out), 23 1/2clk_o (out), 26 H2A (out), 27 1/4clk_o (out), 30 XV1 (out), 31 XV2 (out), 32 XV3 (out), 33 XV4 (out), 34 CH1 (out), 35 CH2 (out), 36 CH3 (out), 37 CH4 (out), 38 XSUB (out), 39 SUB_SW (out), 40 SUB_PD (out), 41 STROB (out), 44 ADC_in (in), 45 BIAS, 46 VRB, 47 VRT, 48 VRM, 50 BLKC, 51 CDS_in (in), 53 BLKFB (in), 54 BLKSH, 56 Test2 (in), 57 Test1 (in), 58 DLL_C, 60 MON (out), 61 41cont (in), 62 CDS_CS (in), 63 SDATA (in), 64 SCK (in)
part B pins: 2 DVSS1,2 (power), 13 DVDD2 (power), 14 DVSS3 (power), 20 DVDD3 (power), 21 DVDD4 (power), 24 DVSS4 (power), 25 DVSS4 (power), 28 DVDD4 (power), 29 DVDD3 (power), 42 DVSS3 (power), 43 AVSS (power), 49 AVDD (power), 52 AVDD (power), 55 AVSS (power), 59 DVDD1 (power)

## HD49335HF
designator U?
CDS/PGA & 10-Bit A/D Converter + TG Converter, 220mW, 36MHz max, 64-Pin QFP; Published: 5-Feb-2010; DatasheetVersion: Rev.1.0, Feb-2004; PackageVersion: Feb-2004; PackageReference: TFP-64C; Publisher: Altium Limited; PackageDescription: 64-Pin Plastic Thin Quad Flat Pack, 10 x 10 x 1.0 mm Body, 0.5 mm Pitch; ComponentLink1Description: Manufacturer Link; ComponentLink1URL: http://sg.renesas.com/fmwk.jsp?cnt=assp_category_landing.jsp&fp=/products/assp; ComponentLink2Description: Datasheet; ComponentLink2URL: http://documentation.renesas.com/eng/products/assp/rej03f0100_hd49335f_hf.pdf
footprint TFP-64C_N (Thin QFP, 64-Leads, Body 10x10mm, Pitch 0.5mm, IPC Medium Density)
footprint TFP-64C_L (Thin QFP, 64-Leads, Body 10x10mm, Pitch 0.5mm, IPC High Density)
footprint TFP-64C_M (Thin QFP, 64-Leads, Body 10x10mm, Pitch 0.5mm, IPC Low Density)
part A pins: 1 ID (out), 3 D0 (out), 4 D1 (out), 5 D2 (out), 6 D3 (out), 7 D4 (out), 8 D5 (out), 9 D6 (out), 10 D7 (out), 11 D8 (out), 12 D9 (out), 15 CLK_in (in), 16 HD_in (in), 17 VD_in (in), 18 Reset (in), 19 RG (out), 22 H1A (out), 23 1/2clk_o (out), 26 H2A (out), 27 1/4clk_o (out), 30 XV1 (out), 31 XV2 (out), 32 XV3 (out), 33 XV4 (out), 34 CH1 (out), 35 CH2 (out), 36 CH3 (out), 37 CH4 (out), 38 XSUB (out), 39 SUB_SW (out), 40 SUB_PD (out), 41 STROB (out), 44 ADC_in (in), 45 BIAS, 46 VRB, 47 VRT, 48 VRM, 50 BLKC, 51 CDS_in (in), 53 BLKFB (in), 54 BLKSH, 56 Test2 (in), 57 Test1 (in), 58 DLL_C, 60 MON (out), 61 41cont (in), 62 CDS_CS (in), 63 SDATA (in), 64 SCK (in)
part B pins: 2 DVSS1,2 (power), 13 DVDD2 (power), 14 DVSS3 (power), 20 DVDD3 (power), 21 DVDD4 (power), 24 DVSS4 (power), 25 DVSS4 (power), 28 DVDD4 (power), 29 DVDD3 (power), 42 DVSS3 (power), 43 AVSS (power), 49 AVDD (power), 52 AVDD (power), 55 AVSS (power), 59 DVDD1 (power)

## HD49335HNP
designator U?
CDS/PGA & 10-Bit A/D Converter + TG Converter, 220mW, 36MHz max, 64-Pin QFN; Published: 5-Feb-2010; DatasheetVersion: Rev.1.0, Feb-2004; PackageVersion: Apr-2006; PackageReference: PWQN0064KB-A; Publisher: Altium Limited; PackageDescription: 64-Pin Plastic Very-very Thin QFN, 9 x 9 x 0.8 mm Body, 0.5 mm Pitch; Code_JEITA: P-WQFN64-9x9-0.50; ComponentLink1Description: Manufacturer Link; ComponentLink1URL: http://sg.renesas.com/fmwk.jsp?cnt=assp_category_landing.jsp&fp=/products/assp; ComponentLink2Description: Datasheet; ComponentLink2URL: http://documentation.renesas.com/eng/products/assp/rej03f0097_hd49335np.pdf; ComponentLink3Description: Packaging Specification; ComponentLink3URL: http://sg.renesas.com/media/products/common_info/package/pdf/ic/code/pwqn0064kb_a.pdf
footprint PWQN0064KB-A_N (QFN, 64-Leads, Body 9x9mm, Pitch 0.5mm, IPC Medium Density)
footprint PWQN0064KB-A_L (QFN, 64-Leads, Body 9x9mm, Pitch 0.5mm, IPC High Density)
footprint PWQN0064KB-A_M (QFN, 64-Leads, Body 9x9mm, Pitch 0.5mm, IPC Low Density)
part A pins: 1 ID (out), 3 D0 (out), 4 D1 (out), 5 D2 (out), 6 D3 (out), 7 D4 (out), 8 D5 (out), 9 D6 (out), 10 D7 (out), 11 D8 (out), 12 D9 (out), 15 CLK_in (in), 16 HD_in (in), 17 VD_in (in), 18 Reset (in), 19 RG (out), 22 H1A (out), 23 1/2clk_o (out), 26 H2A (out), 27 1/4clk_o (out), 30 XV1 (out), 31 XV2 (out), 32 XV3 (out), 33 XV4 (out), 34 CH1 (out), 35 CH2 (out), 36 CH3 (out), 37 CH4 (out), 38 XSUB (out), 39 SUB_SW (out), 40 SUB_PD (out), 41 STROB (out), 44 ADC_in (in), 45 BIAS, 46 VRB, 47 VRT, 48 VRM, 50 BLKC, 51 CDS_in (in), 53 BLKFB (in), 54 BLKSH, 56 Test2 (in), 57 Test1 (in), 58 DLL_C, 60 MON (out), 61 41cont (in), 62 CDS_CS (in), 63 SDATA (in), 64 SCK (in)
part B pins: 2 DVSS1,2 (power), 13 DVDD2 (power), 14 DVSS3 (power), 20 DVDD3 (power), 21 DVDD4 (power), 24 DVSS4 (power), 25 DVSS4 (power), 28 DVDD4 (power), 29 DVDD3 (power), 42 DVSS3 (power), 43 AVSS (power), 49 AVDD (power), 52 AVDD (power), 55 AVSS (power), 59 DVDD1 (power)

## HD49335NP
designator U?
CDS/PGA & 10-Bit A/D Converter + TG Converter, 150mW, 25MHz max, 64-Pin QFN; Published: 5-Feb-2010; DatasheetVersion: Rev.1.0, Feb-2004; PackageVersion: Apr-2006; PackageReference: PWQN0064KB-A; Publisher: Altium Limited; PackageDescription: 64-Pin Plastic Very-very Thin QFN, 9 x 9 x 0.8 mm Body, 0.5 mm Pitch; Code_JEITA: P-WQFN64-9x9-0.50; ComponentLink1Description: Manufacturer Link; ComponentLink1URL: http://sg.renesas.com/fmwk.jsp?cnt=assp_category_landing.jsp&fp=/products/assp; ComponentLink2Description: Datasheet; ComponentLink2URL: http://documentation.renesas.com/eng/products/assp/rej03f0097_hd49335np.pdf; ComponentLink3Description: Packaging Specification; ComponentLink3URL: http://sg.renesas.com/media/products/common_info/package/pdf/ic/code/pwqn0064kb_a.pdf
footprint PWQN0064KB-A_N (QFN, 64-Leads, Body 9x9mm, Pitch 0.5mm, IPC Medium Density)
footprint PWQN0064KB-A_L (QFN, 64-Leads, Body 9x9mm, Pitch 0.5mm, IPC High Density)
footprint PWQN0064KB-A_M (QFN, 64-Leads, Body 9x9mm, Pitch 0.5mm, IPC Low Density)
part A pins: 1 ID (out), 3 D0 (out), 4 D1 (out), 5 D2 (out), 6 D3 (out), 7 D4 (out), 8 D5 (out), 9 D6 (out), 10 D7 (out), 11 D8 (out), 12 D9 (out), 15 CLK_in (in), 16 HD_in (in), 17 VD_in (in), 18 Reset (in), 19 RG (out), 22 H1A (out), 23 1/2clk_o (out), 26 H2A (out), 27 1/4clk_o (out), 30 XV1 (out), 31 XV2 (out), 32 XV3 (out), 33 XV4 (out), 34 CH1 (out), 35 CH2 (out), 36 CH3 (out), 37 CH4 (out), 38 XSUB (out), 39 SUB_SW (out), 40 SUB_PD (out), 41 STROB (out), 44 ADC_in (in), 45 BIAS, 46 VRB, 47 VRT, 48 VRM, 50 BLKC, 51 CDS_in (in), 53 BLKFB (in), 54 BLKSH, 56 Test2 (in), 57 Test1 (in), 58 DLL_C, 60 MON (out), 61 41cont (in), 62 CDS_CS (in), 63 SDATA (in), 64 SCK (in)
part B pins: 2 DVSS1,2 (power), 13 DVDD2 (power), 14 DVSS3 (power), 20 DVDD3 (power), 21 DVDD4 (power), 24 DVSS4 (power), 25 DVSS4 (power), 28 DVDD4 (power), 29 DVDD3 (power), 42 DVSS3 (power), 43 AVSS (power), 49 AVDD (power), 52 AVDD (power), 55 AVSS (power), 59 DVDD1 (power)

## HD49338F
designator U?
CDS/PGA & 12-Bit A/D Converter, 100mW, 25MHz max, 48-Pin QFP; Published: 5-Feb-2010; DatasheetVersion: Rev.2.00, May-2005; PackageVersion: Sep-2005; PackageReference: PLQP0048KD-A; Publisher: Altium Limited; PackageDescription: 48-Pin Plastic Low Profile QFP, 7 x 7 x 1.4 mm Body, 0.5 mm Pitch; Code_JEITA: P-LQFP48-7x7-0.50; Code_IPC: SQFP50P900X900-48; ComponentLink1Description: Manufacturer Link; ComponentLink1URL: http://sg.renesas.com/fmwk.jsp?cnt=assp_category_landing.jsp&fp=/products/assp; ComponentLink2Description: Datasheet; ComponentLink2URL: http://documentation.renesas.com/eng/products/assp/rej03f0107_hd49338f_hf.pdf; ComponentLink3Description: Packaging Specification; ComponentLink3URL: http://sg.renesas.com/media/products/common_info/package/pdf/ic/code/plqp0048kd_a.pdf
footprint PLQP0048KD-A_N (Shrink QFP, 48-Leads, Body 7x7mm, Pitch 0.5mm, IPC Medium Density)
footprint PLQP0048KD-A_L (Shrink QFP, 48-Leads, Body 7x7mm, Pitch 0.5mm, IPC High Density)
footprint PLQP0048KD-A_M (Shrink QFP, 48-Leads, Body 7x7mm, Pitch 0.5mm, IPC Low Density)
pins: 1 D0 (out), 2 D1 (out), 3 D2 (out), 4 D3 (out), 5 D4 (out), 6 D5 (out), 7 D6 (out), 8 D7 (out), 9 D8 (out), 10 D9 (out), 11 D10 (out), 12 D11 (out), 13 DRDVDD (power), 14 DVSS (power), 15 DVSS (power), 16 ADCLK (in), 17 DVDD (power), 18 DVDD (power), 19 PBLK (in), 20 OBP (in), 21 SPBLK (in), 22 SPSIG (in), 23 NC, 24 DVDD (power), 25 AVSS (power), 26 AVSS (power), 27 AVDD (power), 28 BLKSH, 29 BLKFB (in), 30 CDSIN (in), 31 BLKC, 32 BIAS, 33 AVDD (power), 34 YIN (in), 35 AVSS (power), 36 ADCIN (in), 37 VRM, 38 VRT, 39 VRB, 40 DVDD (power), 41 DVSS (power), 42 OEB (in), 43 DVDD (power), 44 DVDD (power), 45 DVSS (power), 46 CS (in), 47 SDATA (in), 48 SCK (in)

## HD49338HF
designator U?
CDS/PGA & 12-Bit A/D Converter, 150mW, 36MHz max, 48-Pin QFP; Published: 5-Feb-2010; DatasheetVersion: Rev.2.00, May-2005; PackageVersion: Sep-2005; PackageReference: PLQP0048KD-A; Publisher: Altium Limited; PackageDescription: 48-Pin Plastic Low Profile QFP, 7 x 7 x 1.4 mm Body, 0.5 mm Pitch; Code_JEITA: P-LQFP48-7x7-0.50; Code_IPC: SQFP50P900X900-48; ComponentLink1Description: Manufacturer Link; ComponentLink1URL: http://sg.renesas.com/fmwk.jsp?cnt=assp_category_landing.jsp&fp=/products/assp; ComponentLink2Description: Datasheet; ComponentLink2URL: http://documentation.renesas.com/eng/products/assp/rej03f0107_hd49338f_hf.pdf; ComponentLink3Description: Packaging Specification; ComponentLink3URL: http://sg.renesas.com/media/products/common_info/package/pdf/ic/code/plqp0048kd_a.pdf
footprint PLQP0048KD-A_N (Shrink QFP, 48-Leads, Body 7x7mm, Pitch 0.5mm, IPC Medium Density)
footprint PLQP0048KD-A_L (Shrink QFP, 48-Leads, Body 7x7mm, Pitch 0.5mm, IPC High Density)
footprint PLQP0048KD-A_M (Shrink QFP, 48-Leads, Body 7x7mm, Pitch 0.5mm, IPC Low Density)
pins: 1 D0 (out), 2 D1 (out), 3 D2 (out), 4 D3 (out), 5 D4 (out), 6 D5 (out), 7 D6 (out), 8 D7 (out), 9 D8 (out), 10 D9 (out), 11 D10 (out), 12 D11 (out), 13 DRDVDD (power), 14 DVSS (power), 15 DVSS (power), 16 ADCLK (in), 17 DVDD (power), 18 DVDD (power), 19 PBLK (in), 20 OBP (in), 21 SPBLK (in), 22 SPSIG (in), 23 NC, 24 DVDD (power), 25 AVSS (power), 26 AVSS (power), 27 AVDD (power), 28 BLKSH, 29 BLKFB (in), 30 CDSIN (in), 31 BLKC, 32 BIAS, 33 AVDD (power), 34 YIN (in), 35 AVSS (power), 36 ADCIN (in), 37 VRM, 38 VRT, 39 VRB, 40 DVDD (power), 41 DVSS (power), 42 OEB (in), 43 DVDD (power), 44 DVDD (power), 45 DVSS (power), 46 CS (in), 47 SDATA (in), 48 SCK (in)

## HD49338HNP
designator U?
CDS/PGA & 12-Bit AD Converter, 150mW, 36MHz max, 48-Pin QFN; Published: 5-Feb-2010; DatasheetVersion: Rev.2.00, May-2005; PackageVersion: Jul-2006; PackageReference: PWQN0048KA-A; Publisher: Altium Limited; PackageDescription: 48-Pin Plastic Very-very Thin QFN, 7 x 7 x 0.8 mm Body, 0.5 mm Pitch, Exposed Pad; Code_JEITA: P-HWQFN48-7x7-0.50; ComponentLink1Description: Manufacturer Link; ComponentLink1URL: http://sg.renesas.com/fmwk.jsp?cnt=assp_category_landing.jsp&fp=/products/assp; ComponentLink2Description: Datasheet; ComponentLink2URL: http://documentation.renesas.com/eng/products/assp/rej03f0113_hd49338np_hnp.pdf; ComponentLink3Description: Packaging Specification; ComponentLink3URL: http://sg.renesas.com/media/products/common_info/package/pdf/ic/code/pwqn0048ka_a.pdf
footprint PWQN0048KA-A_N (QFN, 48-Leads, Body 7x7mm, Pitch 0.5mm, IPC Medium Density)
footprint PWQN0048KA-A_L (QFN, 48-Leads, Body 7x7mm, Pitch 0.5mm, IPC High Density)
footprint PWQN0048KA-A_M (QFN, 48-Leads, Body 7x7mm, Pitch 0.5mm, IPC Low Density)
pins: 1 D0 (out), 2 D1 (out), 3 D2 (out), 4 D3 (out), 5 D4 (out), 6 D5 (out), 7 D6 (out), 8 D7 (out), 9 D8 (out), 10 D9 (out), 11 D10 (out), 12 D11 (out), 13 DRDVDD (power), 14 DVSS (power), 15 DVSS (power), 16 ADCLK (in), 17 DVDD (power), 18 DVDD (power), 19 PBLK (in), 20 OBP (in), 21 SPBLK (in), 22 SPSIG (in), 23 NC, 24 DVDD (power), 25 AVSS (power), 26 AVSS (power), 27 AVDD (power), 28 BLKSH, 29 BLKFB (in), 30 CDSIN (in), 31 BLKC, 32 BIAS, 33 AVDD (power), 34 YIN (in), 35 AVSS (power), 36 ADCIN (in), 37 VRM, 38 VRT, 39 VRB, 40 DVDD (power), 41 DVSS (power), 42 OEB (in), 43 DVDD (power), 44 DVDD (power), 45 DVSS (power), 46 CS (in), 47 SDATA (in), 48 SCK (in)

## HD49338NP
designator U?
CDS/PGA & 12-Bit AD Converter, 100mW, 25MHz max, 48-Pin QFN; Published: 5-Feb-2010; DatasheetVersion: Rev.2.00, May-2005; PackageVersion: Jul-2006; PackageReference: PWQN0048KA-A; Publisher: Altium Limited; PackageDescription: 48-Pin Plastic Very-very Thin QFN, 7 x 7 x 0.8 mm Body, 0.5 mm Pitch, Exposed Pad; Code_JEITA: P-HWQFN48-7x7-0.50; ComponentLink1Description: Manufacturer Link; ComponentLink1URL: http://sg.renesas.com/fmwk.jsp?cnt=assp_category_landing.jsp&fp=/products/assp; ComponentLink2Description: Datasheet; ComponentLink2URL: http://documentation.renesas.com/eng/products/assp/rej03f0113_hd49338np_hnp.pdf; ComponentLink3Description: Packaging Specification; ComponentLink3URL: http://sg.renesas.com/media/products/common_info/package/pdf/ic/code/pwqn0048ka_a.pdf
footprint PWQN0048KA-A_N (QFN, 48-Leads, Body 7x7mm, Pitch 0.5mm, IPC Medium Density)
footprint PWQN0048KA-A_L (QFN, 48-Leads, Body 7x7mm, Pitch 0.5mm, IPC High Density)
footprint PWQN0048KA-A_M (QFN, 48-Leads, Body 7x7mm, Pitch 0.5mm, IPC Low Density)
pins: 1 D0 (out), 2 D1 (out), 3 D2 (out), 4 D3 (out), 5 D4 (out), 6 D5 (out), 7 D6 (out), 8 D7 (out), 9 D8 (out), 10 D9 (out), 11 D10 (out), 12 D11 (out), 13 DRDVDD (power), 14 DVSS (power), 15 DVSS (power), 16 ADCLK (in), 17 DVDD (power), 18 DVDD (power), 19 PBLK (in), 20 OBP (in), 21 SPBLK (in), 22 SPSIG (in), 23 NC, 24 DVDD (power), 25 AVSS (power), 26 AVSS (power), 27 AVDD (power), 28 BLKSH, 29 BLKFB (in), 30 CDSIN (in), 31 BLKC, 32 BIAS, 33 AVDD (power), 34 YIN (in), 35 AVSS (power), 36 ADCIN (in), 37 VRM, 38 VRT, 39 VRB, 40 DVDD (power), 41 DVSS (power), 42 OEB (in), 43 DVDD (power), 44 DVDD (power), 45 DVSS (power), 46 CS (in), 47 SDATA (in), 48 SCK (in)

## HD49340F
designator U?
CDS/PGA & 10-Bit A/D Converter, 60mW, 25MHz max, 48-Pin QFP; Published: 5-Feb-2010; DatasheetVersion: Rev.1.0, Apr-2004; PackageVersion: Sep-2005; PackageReference: PLQP0048KD-A; Publisher: Altium Limited; PackageDescription: 48-Pin Plastic Low Profile QFP, 7 x 7 x 1.4 mm Body, 0.5 mm Pitch; Code_JEITA: P-LQFP48-7x7-0.50; Code_IPC: SQFP50P900X900-48; ComponentLink1Description: Manufacturer Link; ComponentLink1URL: http://sg.renesas.com/fmwk.jsp?cnt=assp_category_landing.jsp&fp=/products/assp; ComponentLink2Description: Datasheet; ComponentLink2URL: http://documentation.renesas.com/eng/products/assp/rej03f0108_hd49340f_hf.pdf; ComponentLink3Description: Packaging Specification; ComponentLink3URL: http://sg.renesas.com/media/products/common_info/package/pdf/ic/code/plqp0048kd_a.pdf
footprint PLQP0048KD-A_N (Shrink QFP, 48-Leads, Body 7x7mm, Pitch 0.5mm, IPC Medium Density)
footprint PLQP0048KD-A_L (Shrink QFP, 48-Leads, Body 7x7mm, Pitch 0.5mm, IPC High Density)
footprint PLQP0048KD-A_M (Shrink QFP, 48-Leads, Body 7x7mm, Pitch 0.5mm, IPC Low Density)
pins: 1 NC, 2 D0 (out), 3 D1 (out), 4 D2 (out), 5 D3 (out), 6 D4 (out), 7 D5 (out), 8 D6 (out), 9 D7 (out), 10 D8 (out), 11 D9 (out), 12 NC, 13 DRDVDD (power), 14 DVSS (power), 15 DVSS (power), 16 ADCLK (in), 17 DVDD (power), 18 DVDD (power), 19 PBLK (in), 20 OBP (in), 21 SPBLK (in), 22 SPSIG (in), 23 NC, 24 NC, 25 AVSS (power), 26 AVSS (power), 27 AVDD (power), 28 BLKSH, 29 BLKFB (in), 30 CDSIN (in), 31 BLKC, 32 BIAS, 33 AVDD (power), 34 NC, 35 AVSS (power), 36 ADCIN (in), 37 VRM, 38 VRT, 39 VRB, 40 NC, 41 DVSS (power), 42 OEB (in), 43 DVDD (power), 44 DVDD (power), 45 DVSS (power), 46 CS (in), 47 SDATA (in), 48 SCK (in)

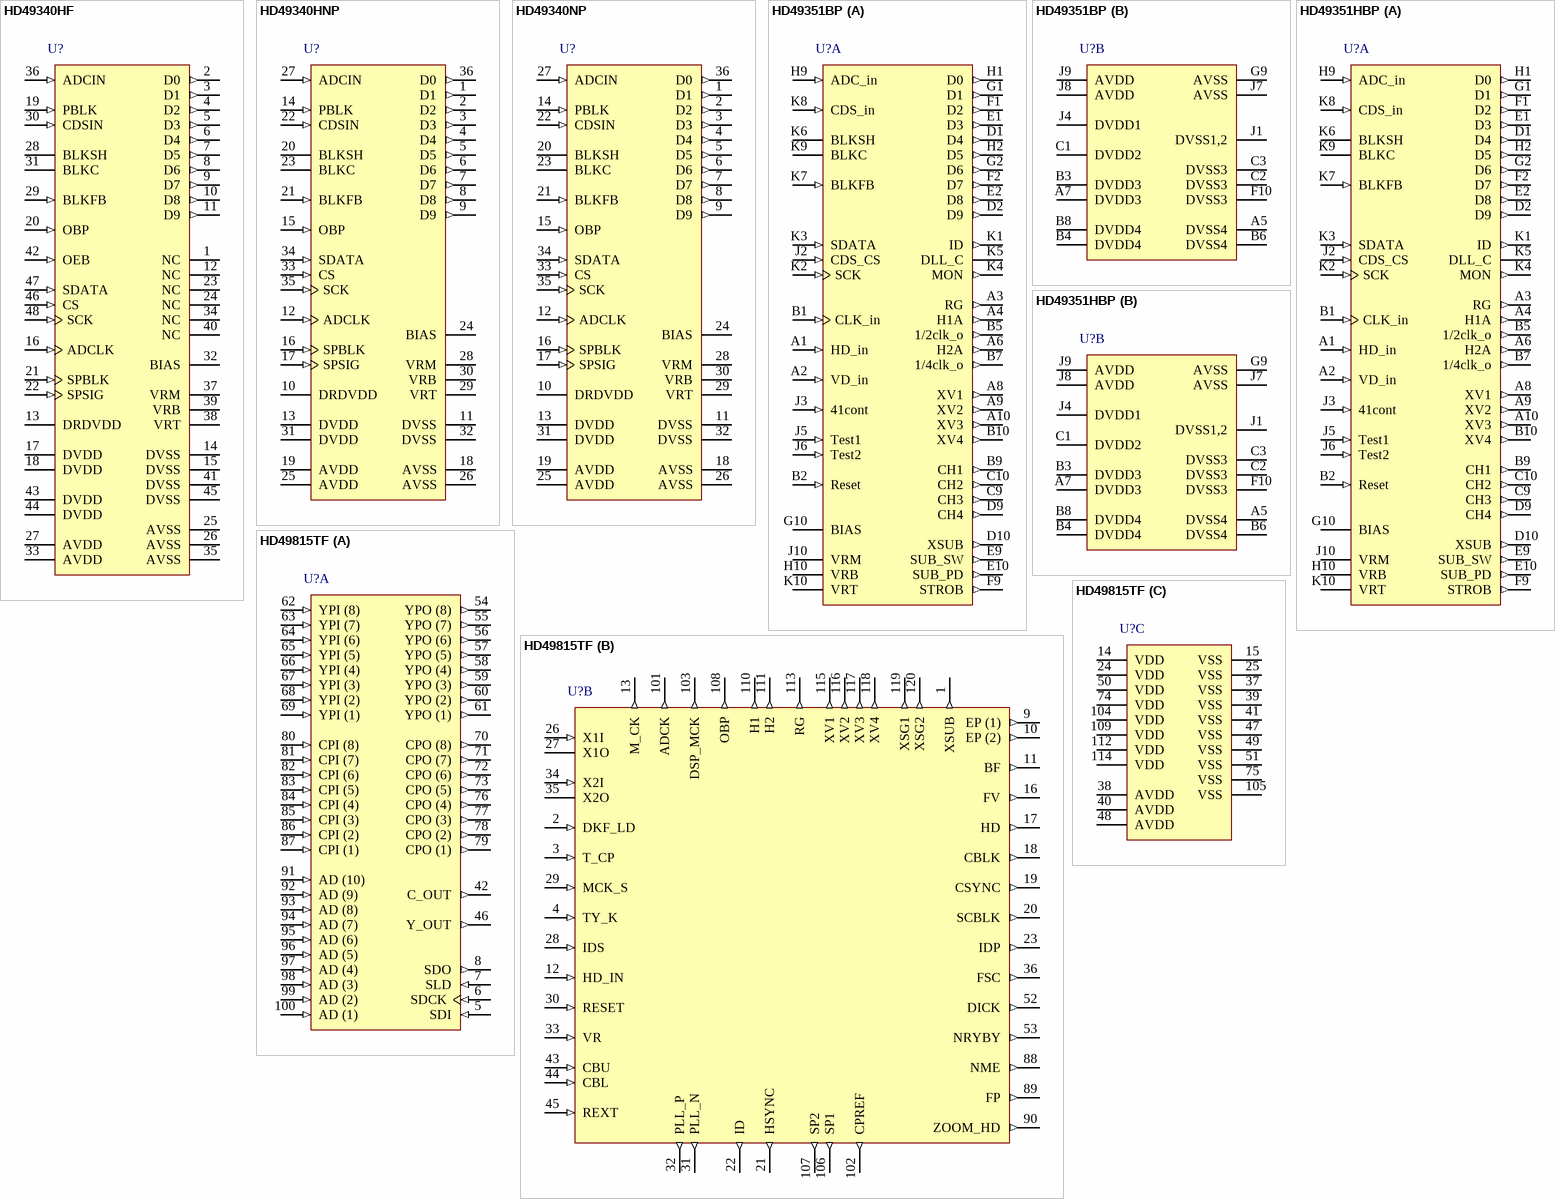
[diagram p2: symbols HD49340HF to HD49815TF]

## HD49340HF
designator U?
CDS/PGA & 10-Bit A/D Converter, 120mW, 36MHz max, 48-Pin QFP; Published: 5-Feb-2010; DatasheetVersion: Rev.1.0, Apr-2004; PackageVersion: Sep-2005; PackageReference: PLQP0048KD-A; Publisher: Altium Limited; PackageDescription: 48-Pin Plastic Low Profile QFP, 7 x 7 x 1.4 mm Body, 0.5 mm Pitch; Code_JEITA: P-LQFP48-7x7-0.50; Code_IPC: SQFP50P900X900-48; ComponentLink1Description: Manufacturer Link; ComponentLink1URL: http://sg.renesas.com/fmwk.jsp?cnt=assp_category_landing.jsp&fp=/products/assp; ComponentLink2Description: Datasheet; ComponentLink2URL: http://documentation.renesas.com/eng/products/assp/rej03f0108_hd49340f_hf.pdf; ComponentLink3Description: Packaging Specification; ComponentLink3URL: http://sg.renesas.com/media/products/common_info/package/pdf/ic/code/plqp0048kd_a.pdf
footprint PLQP0048KD-A_N (Shrink QFP, 48-Leads, Body 7x7mm, Pitch 0.5mm, IPC Medium Density)
footprint PLQP0048KD-A_L (Shrink QFP, 48-Leads, Body 7x7mm, Pitch 0.5mm, IPC High Density)
footprint PLQP0048KD-A_M (Shrink QFP, 48-Leads, Body 7x7mm, Pitch 0.5mm, IPC Low Density)
pins: 1 NC, 2 D0 (out), 3 D1 (out), 4 D2 (out), 5 D3 (out), 6 D4 (out), 7 D5 (out), 8 D6 (out), 9 D7 (out), 10 D8 (out), 11 D9 (out), 12 NC, 13 DRDVDD (power), 14 DVSS (power), 15 DVSS (power), 16 ADCLK (in), 17 DVDD (power), 18 DVDD (power), 19 PBLK (in), 20 OBP (in), 21 SPBLK (in), 22 SPSIG (in), 23 NC, 24 NC, 25 AVSS (power), 26 AVSS (power), 27 AVDD (power), 28 BLKSH, 29 BLKFB (in), 30 CDSIN (in), 31 BLKC, 32 BIAS, 33 AVDD (power), 34 NC, 35 AVSS (power), 36 ADCIN (in), 37 VRM, 38 VRT, 39 VRB, 40 NC, 41 DVSS (power), 42 OEB (in), 43 DVDD (power), 44 DVDD (power), 45 DVSS (power), 46 CS (in), 47 SDATA (in), 48 SCK (in)

## HD49340HNP
designator U?
CDS/PGA & 10-Bit A/D Converter, 120mW, 36MHz max, 36-Pin QFN; Published: 5-Feb-2010; DatasheetVersion: Rev.1.00, Apr-2004; PackageVersion: Sep-2005; PackageReference: PVQN0036KA-A; Publisher: Altium Limited; PackageDescription: 36-Pin Plastic Very Thin QFN, 6.2 x 6.2 x 0.89 mm Body, 0.5 mm Pitch; Code_JEITA: P-VQFN36-6x6-0.50; ComponentLink1Description: Manufacturer Link; ComponentLink1URL: http://sg.renesas.com/fmwk.jsp?cnt=assp_category_landing.jsp&fp=/products/assp; ComponentLink2Description: Datasheet; ComponentLink2URL: http://documentation.renesas.com/eng/products/assp/rej03f0109_hd49340np_hnp.pdf; ComponentLink3Description: Packaging Specification; ComponentLink3URL: http://sg.renesas.com/media/products/common_info/package/pdf/ic/code/pvqn0036ka_a.pdf
footprint PVQN0036KA-A_N (QFN, 36-Leads, Body 6.2x6.2mm, Pitch 0.5mm, IPC Medium Density)
footprint PVQN0036KA-A_L (QFN, 36-Leads, Body 6.2x6.2mm, Pitch 0.5mm, IPC High Density)
footprint PVQN0036KA-A_M (QFN, 36-Leads, Body 6.2x6.2mm, Pitch 0.5mm, IPC Low Density)
pins: 1 D1 (out), 2 D2 (out), 3 D3 (out), 4 D4 (out), 5 D5 (out), 6 D6 (out), 7 D7 (out), 8 D8 (out), 9 D9 (out), 10 DRDVDD (power), 11 DVSS (power), 12 ADCLK (in), 13 DVDD (power), 14 PBLK (in), 15 OBP (in), 16 SPBLK (in), 17 SPSIG (in), 18 AVSS (power), 19 AVDD (power), 20 BLKSH, 21 BLKFB (in), 22 CDSIN (in), 23 BLKC, 24 BIAS, 25 AVDD (power), 26 AVSS (power), 27 ADCIN (in), 28 VRM, 29 VRT, 30 VRB, 31 DVDD (power), 32 DVSS (power), 33 CS (in), 34 SDATA (in), 35 SCK (in), 36 D0 (out)

## HD49340NP
designator U?
CDS/PGA & 10-Bit A/D Converter, 60mW, 25MHz max, 36-Pin QFN; Published: 5-Feb-2010; DatasheetVersion: Rev.1.00, Apr-2004; PackageVersion: Sep-2005; PackageReference: PVQN0036KA-A; Publisher: Altium Limited; PackageDescription: 36-Pin Plastic Very Thin QFN, 6.2 x 6.2 x 0.89 mm Body, 0.5 mm Pitch; Code_JEITA: P-VQFN36-6x6-0.50; ComponentLink1Description: Manufacturer Link; ComponentLink1URL: http://sg.renesas.com/fmwk.jsp?cnt=assp_category_landing.jsp&fp=/products/assp; ComponentLink2Description: Datasheet; ComponentLink2URL: http://documentation.renesas.com/eng/products/assp/rej03f0109_hd49340np_hnp.pdf; ComponentLink3Description: Packaging Specification; ComponentLink3URL: http://sg.renesas.com/media/products/common_info/package/pdf/ic/code/pvqn0036ka_a.pdf
footprint PVQN0036KA-A_N (QFN, 36-Leads, Body 6.2x6.2mm, Pitch 0.5mm, IPC Medium Density)
footprint PVQN0036KA-A_L (QFN, 36-Leads, Body 6.2x6.2mm, Pitch 0.5mm, IPC High Density)
footprint PVQN0036KA-A_M (QFN, 36-Leads, Body 6.2x6.2mm, Pitch 0.5mm, IPC Low Density)
pins: 1 D1 (out), 2 D2 (out), 3 D3 (out), 4 D4 (out), 5 D5 (out), 6 D6 (out), 7 D7 (out), 8 D8 (out), 9 D9 (out), 10 DRDVDD (power), 11 DVSS (power), 12 ADCLK (in), 13 DVDD (power), 14 PBLK (in), 15 OBP (in), 16 SPBLK (in), 17 SPSIG (in), 18 AVSS (power), 19 AVDD (power), 20 BLKSH, 21 BLKFB (in), 22 CDSIN (in), 23 BLKC, 24 BIAS, 25 AVDD (power), 26 AVSS (power), 27 ADCIN (in), 28 VRM, 29 VRT, 30 VRB, 31 DVDD (power), 32 DVSS (power), 33 CS (in), 34 SDATA (in), 35 SCK (in), 36 D0 (out)